# EAGLE library part 78LXX (library AWJLEagleLib)
78xx L series in SO-8
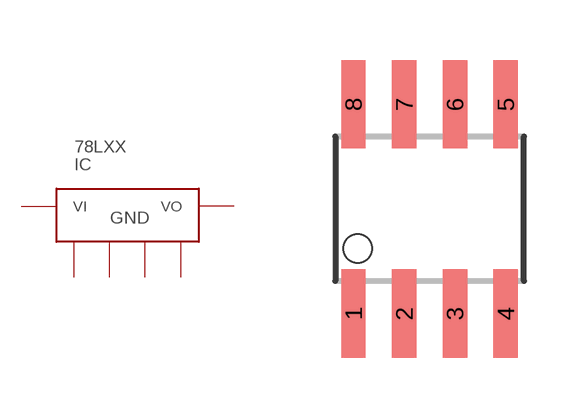
[diagram p13: symbol with the pads of SO08; footprint SO08]

Designator prefix IC

## 78LXXL  [SO08]
1  VO
2  GND
3  GND
6  GND
7  GND
8  VI

## Footprint SO08 (pad centres in mm)
smd 0.61 x 2.21: 1 -1.905,-2.616; 2 -0.635,-2.616; 3 0.635,-2.616; 4 1.905,-2.616; 5 1.905,2.616; 6 0.635,2.616; 7 -0.635,2.616; 8 -1.905,2.616